# EAGLE library part DS_IC_OPA_ADA4254 (library Module_AIO)
Zero Drift, High Voltage, Low Power, Programmable Gain Instrumentation Amplifier
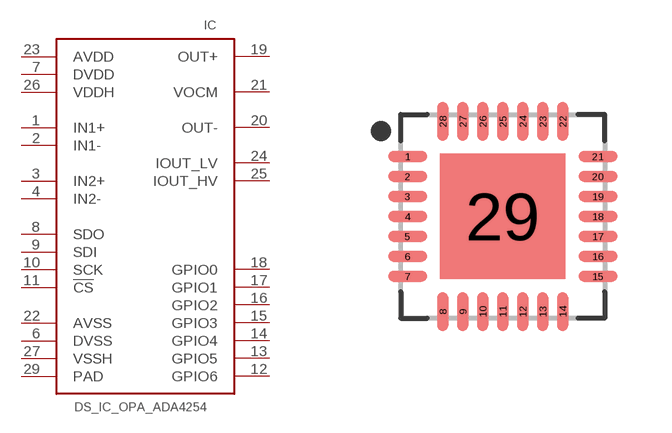
[diagram p7: symbol with the pads of DS_IC_OPA_QFN50P500X500X75-29T314N; footprint DS_IC_OPA_QFN50P500X500X75-29T314N]

Designator prefix IC

## DS_IC_OPA_ADA4254ACPZ  [DS_IC_OPA_QFN50P500X500X75-29T314N]
1  IN1+  in
2  IN1-  in
3  IN2+  in
4  IN2-  in
6  DVSS  pwr
7  DVDD  pwr
8  SDO
9  SDI
10  SCK
11  !CS
12  GPIO6
13  GPIO5
14  GPIO4
15  GPIO3
16  GPIO2
17  GPIO1
18  GPIO0
19  OUT+  out
20  OUT-  out
21  VOCM  out
22  AVSS  pwr
23  AVDD  pwr
24  IOUT_LV  out
25  IOUT_HV  out
26  VDDH  pwr
27  VSSH  pwr
29  PAD  pwr

## Footprint DS_IC_OPA_QFN50P500X500X75-29T314N (pad centres in mm)
28-QFN, 0.50 mm pitch, 5.00 X 5.00 X 0.75 mm body, 3.14 X 3.14 mm thermal pad 28-pin QFN package with 0.50 mm pitch with body size 5.00 X 5.00 X 0.75 mm and thermal pad size 3.14 X 3.14 mm
smd 0.968 x 0.27: 1 -2.381,1.5; 2 -2.381,1; 3 -2.381,0.5; 4 -2.381,0; 5 -2.381,-0.5; 6 -2.381,-1; 7 -2.381,-1.5; 15 2.381,-1.5; 16 2.381,-1; 17 2.381,-0.5; 18 2.381,0; 19 2.381,0.5; 20 2.381,1; 21 2.381,1.5
smd 0.27 x 0.968: 8 -1.5,-2.381; 9 -1,-2.381; 10 -0.5,-2.381; 11 0,-2.381; 12 0.5,-2.381; 13 1,-2.381; 14 1.5,-2.381; 22 1.5,2.381; 23 1,2.381; 24 0.5,2.381; 25 0,2.381; 26 -0.5,2.381; 27 -1,2.381; 28 -1.5,2.381
smd 3.14 x 3.14: 29 0,0